# Altium schematic symbol library Inductors_1.SchLib: 1 symbol
Pins are listed as number, name and electrical type; pins without a type are passive.

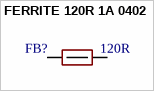
[diagram p0: symbol FERRITE 120R 1A 0402]

## FERRITE 120R 1A 0402
designator FB?, comment 120R
FERRITE BEAD 120 OHM 0402 1LN; MANUFACTURER: Taiyo Yuden; MANUFACTURER #: BKP1005HS121-T; PART: FERRITE 120R 1A 0402; VALUE: 120Rfb; TOLERANCE: -NA-; EE_SPEC: 1A; DISTRIBUTOR #: 587-1921-2-ND; DISTRIBUTOR: Digikey; PART DESCRIPTION: FERRITE BEAD 120 OHM 0402 1LN
footprint R0402
pins: 1, 2